# Altium schematic symbol library STM32F405RGT6.SchLib: 1 symbol
Pins are listed as number, name and electrical type; pins without a type are passive.

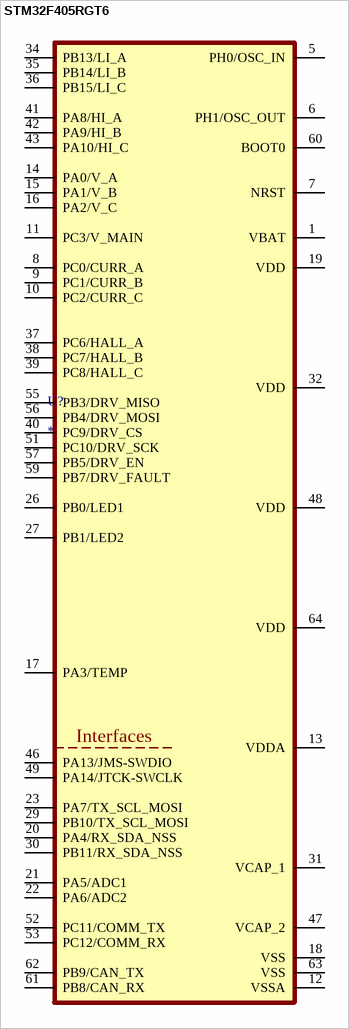
[diagram p0: symbol STM32F405RGT6]

## STM32F405RGT6
designator U?
footprint STM32F405RGT6
pins: 1 VBAT, 5 PH0/OSC_IN, 6 PH1/OSC_OUT, 7 NRST, 8 PC0/CURR_A, 9 PC1/CURR_B, 10 PC2/CURR_C, 11 PC3/V_MAIN, 12 VSSA, 13 VDDA, 14 PA0/V_A, 15 PA1/V_B, 16 PA2/V_C, 17 PA3/TEMP, 18 VSS, 19 VDD, 20 PA4/RX_SDA_NSS, 21 PA5/ADC1, 22 PA6/ADC2, 23 PA7/TX_SCL_MOSI, 26 PB0/LED1, 27 PB1/LED2, 29 PB10/TX_SCL_MOSI, 30 PB11/RX_SDA_NSS, 31 VCAP_1, 32 VDD, 34 PB13/LI_A, 35 PB14/LI_B, 36 PB15/LI_C, 37 PC6/HALL_A, 38 PC7/HALL_B, 39 PC8/HALL_C, 40 PC9/DRV_CS, 41 PA8/HI_A, 42 PA9/HI_B, 43 PA10/HI_C, 46 PA13/JMS-SWDIO, 47 VCAP_2, 48 VDD, 49 PA14/JTCK-SWCLK, 51 PC10/DRV_SCK, 52 PC11/COMM_TX, 53 PC12/COMM_RX, 55 PB3/DRV_MISO, 56 PB4/DRV_MOSI, 57 PB5/DRV_EN, 59 PB7/DRV_FAULT, 60 BOOT0, 61 PB8/CAN_RX, 62 PB9/CAN_TX, 63 VSS, 64 VDD
text: Interfaces